# EAGLE library part MICS2714 (library Alberto)
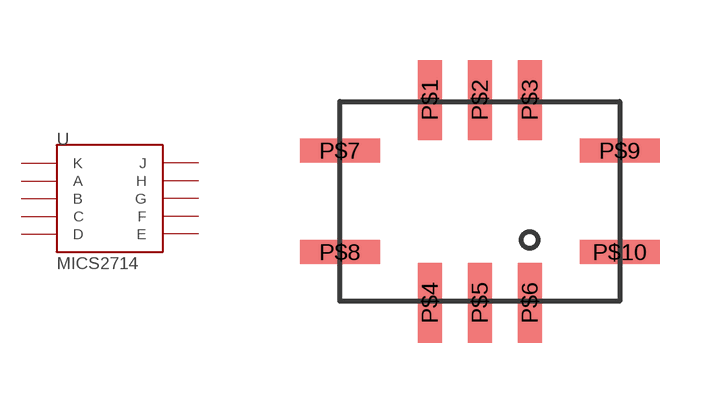
[diagram p1: symbol with the pads of SMD; footprint SMD]

Designator prefix -

## MICS2714  [SMD]
P$1  F
P$2  G
P$3  H
P$4  C
P$5  B
P$6  A
P$7  E
P$8  D
P$9  J
P$10  K

## Footprint SMD (pad centres in mm)
smd 0.6 x 2: P$1 -1.25,2.54; P$2 0,2.54; P$3 1.25,2.54; P$4 -1.25,-2.54; P$5 0,-2.54; P$6 1.25,-2.54
smd 2 x 0.6: P$7 -3.5,1.27; P$8 -3.5,-1.27; P$9 3.5,1.27; P$10 3.5,-1.27